# Altium footprint library Elec391_Components.PcbLib: 2 footprints
Each footprint in its own frame and in the unit in brackets; x right, y up, seen from the top. Pads: shape width x height; smd on the part's side, far side on the other; paste and mask are expansions set on the pad; w line width, h text height; cw(c..) or ccw(c..) is an arc to the next point about the centre after c.
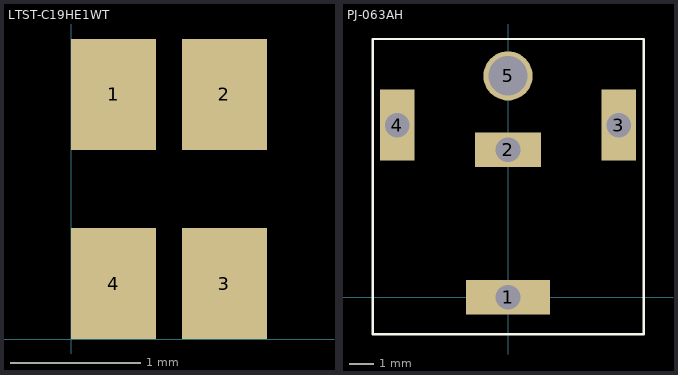
[diagram p0: the footprints below, top view; thin cyan lines are the x and y axes]

## LTST-C19HE1WT [mm]
pads (4):
  rect 0.65x0.85 smd: 1(0.325,1.875) 2(1.175,1.875) 3(1.175,0.425) 4(0.325,0.425)

## PJ-063AH [mm]
pads (5):
  rect 3.4x1.4 hole 1 square: 1(0,0)
  rect 2.7x1.4 hole 1 square: 2(0,6)
  rect 1.4x2.9 hole 1 square: 3(4.5,7) 4(-4.5,7)
  round 2 hole 1.6: 5(0,9)
Top Overlay:
  lines w0.1: -5.5,-1.5 -5.5,4.5 -5.5,10.5 5.525,10.5 5.525,4.225 5.525,-1.5 -5.5,-1.5
3D body "User Library-PJ-063AH.STEP": height 9, standoff -3, extent -5.15,-1 5.15,12